# EAGLE library part XBEE (library Xbees)
XBee® ZB ZigBee® RF モジュール XBEE-MAIN is "XBEE PRO" 基本はXBEE-MAINを;使うべし。というかこっちしか使わん。
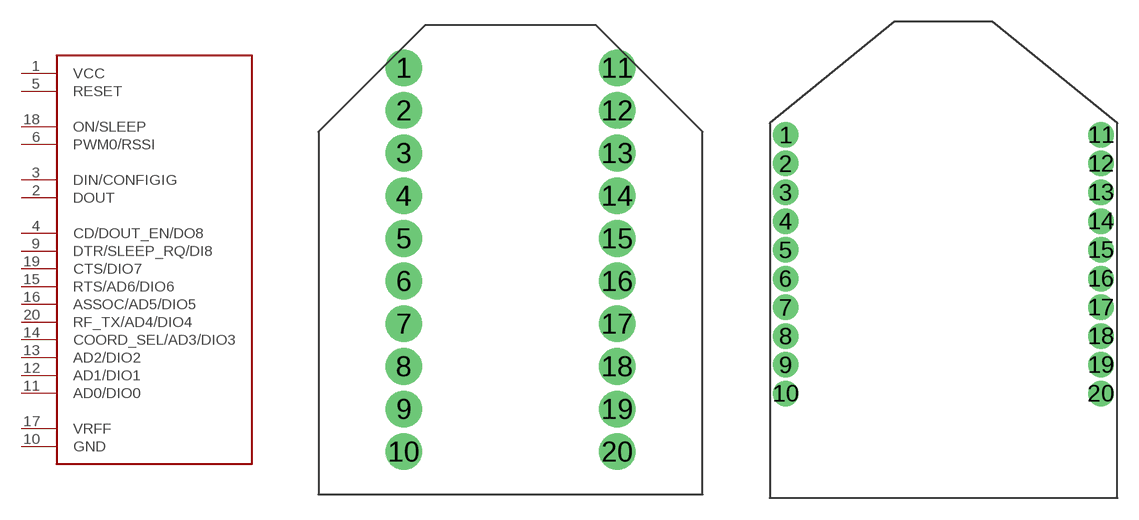
[diagram p0: symbol with the pads of XBEE; footprints XBEE, XBEE-MAIN]

Designator prefix XB

## XBEE  [XBEE]
1  VCC
2  DOUT
3  DIN/CONFIGIG
4  CD/DOUT_EN/DO8
5  RESET
6  PWM0/RSSI
9  DTR/SLEEP_RQ/DI8
10  GND
11  AD0/DIO0
12  AD1/DIO1
13  AD2/DIO2
14  COORD_SEL/AD3/DIO3
15  RTS/AD6/DIO6
16  ASSOC/AD5/DIO5
17  VRFF
18  ON/SLEEP
19  CTS/DIO7
20  RF_TX/AD4/DIO4

## XBEE-  [XBEE-MAIN]
Pads as for XBEE

## Footprint XBEE (pad centres in mm)
drill 1 pad 2.184: 1 -6.35,11.43; 2 -6.35,8.89; 3 -6.35,6.35; 4 -6.35,3.81; 5 -6.35,1.27; 6 -6.35,-1.27; 7 -6.35,-3.81; 8 -6.35,-6.35; 9 -6.35,-8.89; 10 -6.35,-11.43; 11 6.35,11.43; 12 6.35,8.89; 13 6.35,6.35; 14 6.35,3.81; 15 6.35,1.27; 16 6.35,-1.27; 17 6.35,-3.81; 18 6.35,-6.35; 19 6.35,-8.89; 20 6.35,-11.43

## Footprint XBEE-MAIN (pad centres in mm)
drill 1 pad 1.778: 1 1.118,25.349; 2 1.118,23.343; 3 1.118,21.336; 4 1.118,19.329; 5 1.118,17.323; 6 1.118,15.316; 7 1.118,13.31; 8 1.118,11.303; 9 1.118,9.296; 10 1.118,7.29; 11 23.114,25.349; 12 23.114,23.343; 13 23.114,21.336; 14 23.114,19.329; 15 23.114,17.323; 16 23.114,15.316; 17 23.114,13.31; 18 23.114,11.303; 19 23.114,9.296; 20 23.114,7.29